# Altium footprint library Connectors RJ45.PcbLib: 3 footprints
Each footprint in its own frame and in the unit in brackets; x right, y up, seen from the top. Pads: shape width x height; smd on the part's side, far side on the other; paste and mask are expansions set on the pad; w line width, h text height; cw(c..) or ccw(c..) is an arc to the next point about the centre after c.
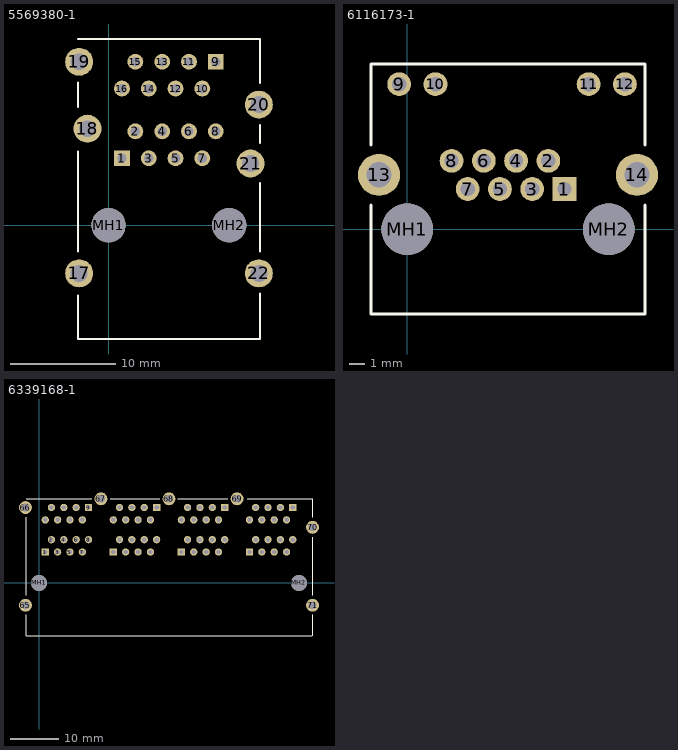
[diagram p0: the footprints below, top view; thin cyan lines are the x and y axes]

## 5569380-1 [mm] "RJ45 - 2 Ports 2 Rows"
pads (24):
  rect 1.5x1.5 hole 0.9: 1(1.27,6.35) 9(10.16,15.494)
  round 1.5 hole 0.9: 2(2.54,8.89) 3(3.81,6.35) 4(5.08,8.89) 5(6.35,6.35) 6(7.62,8.89) 7(8.89,6.35) 8(10.16,8.89) 10(8.89,12.954) 11(7.62,15.494) 12(6.35,12.954) 13(5.08,15.494) 14(3.81,12.954) 15(2.54,15.494) 16(1.27,12.954)
  round 2.65 hole 1.6: 17(-2.794,-4.572) 18(-2.007,9.144) 19(-2.794,15.494) 20(14.249,11.43) 21(13.462,5.842) 22(14.249,-4.572)
  round 3.25 hole 3.25 unplated: MH1(0,0) MH2(11.43,0)
Top Overlay:
  lines w0.2: -2.921,-6.7 -2.921,-10.795 14.351,-10.795 ; -2.921,-2.5 -2.921,7 ; -2.921,11.2 -2.921,13.5 ; -2.921,17.653 14.347,17.653 14.351,17.649 14.351,13.5 ; 14.351,-10.8 14.351,-6.5 ; 14.351,-2.5 14.351,4 ; 14.351,7.8 14.351,9.5

## 6116173-1 [mm]
pads (16):
  rect 1.5x1.5 hole 0.9: 1(9.906,2.54)
  round 1.5 hole 0.9: 2(8.89,4.318) 3(7.874,2.54) 4(6.858,4.318) 5(5.842,2.54) 6(4.826,4.318) 7(3.81,2.54) 8(2.794,4.318) 9(-0.508,9.144) 10(1.778,9.144) 11(11.43,9.144) 12(13.716,9.144)
  round 2.65 hole 1.6: 13(-1.778,3.429) 14(14.478,3.429)
  round 3.25 hole 3.25 unplated: MH1(0,0) MH2(12.7,0)
Top Overlay:
  lines w0.2: -2.286,1.524 -2.286,-5.334 14.986,-5.334 14.986,1.524 ; -2.286,5.334 -2.286,10.414 14.986,10.414 14.986,5.334

## 6339168-1 [mm] "RJ45 - 8 Ports 2 Rows"
pads (73):
  rect 1.5x1.5 hole 0.9: 1(1.27,6.35) 9(10.16,15.49) 17(15.24,6.35) 25(24.13,15.49) 33(29.21,6.35) 41(38.1,15.49) 49(43.18,6.35) 57(52.07,15.49)
  round 1.5 hole 0.9: 2(2.54,8.89) 3(3.81,6.35) 4(5.08,8.89) 5(6.35,6.35) 6(7.62,8.89) 7(8.89,6.35) 8(10.16,8.89) 10(8.89,12.95) 11(7.62,15.49) 12(6.35,12.95) 13(5.08,15.49) 14(3.81,12.95) 15(2.54,15.49) 16(1.27,12.95) 18(16.51,8.89) 19(17.78,6.35) 20(19.05,8.89) 21(20.32,6.35) 22(21.59,8.89) 23(22.86,6.35) 24(24.13,8.89) 26(22.86,12.95) 27(21.59,15.49) 28(20.32,12.95) 29(19.05,15.49) 30(17.78,12.95) 31(16.51,15.49) 32(15.24,12.95) 34(30.48,8.89) 35(31.75,6.35) 36(33.02,8.89) 37(34.29,6.35) 38(35.56,8.89) 39(36.83,6.35) 40(38.1,8.89) 42(36.83,12.95) 43(35.56,15.49) 44(34.29,12.95) 45(33.02,15.49) 46(31.75,12.95) 47(30.48,15.49) 48(29.21,12.95) 50(44.45,8.89) 51(45.72,6.35) 52(46.99,8.89) 53(48.26,6.35) 54(49.53,8.89) 55(50.8,6.35) 56(52.07,8.89) 58(50.8,12.95) 59(49.53,15.49) 60(48.26,12.95) 61(46.99,15.49) 62(45.72,12.95) 63(44.45,15.49) 64(43.18,12.95)
  round 2.65 hole 1.6: 65(-2.79,-4.57) 66(-2.79,15.49) 67(12.7,17.27) 68(26.67,17.27) 69(40.64,17.27) 70(56.13,11.43) 71(56.13,-4.57)
  round 3.25 hole 3.25 unplated: MH1(0,0) MH2(53.34,0)
Top Overlay:
  lines w0.2: -2.6,-10.8 -2.6,-6.5 ; -2.6,-2.5 -2.6,13.5 ; -2.6,17.3 10.8,17.3 ; -2.585,-10.8 56,-10.8 ; 14.6,17.3 24.8,17.3 ; 28.5,17.3 38.7,17.3 ; 42.7,17.3 56.13,17.3 ; 56.13,-10.8 56.13,-6.5 ; 56.13,-2.5 56.13,9.4 ; 56.13,13.5 56.13,17.2